# Altium footprint library PcbLib1.PcbLib: 2 footprints
Each footprint in its own frame and in the unit in brackets; x right, y up, seen from the top. Pads: shape width x height; smd on the part's side, far side on the other; paste and mask are expansions set on the pad; w line width, h text height; cw(c..) or ccw(c..) is an arc to the next point about the centre after c.
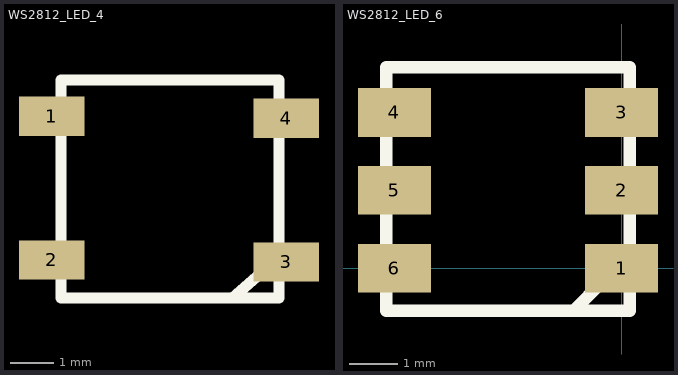
[diagram p0: the footprints below, top view; thin cyan lines are the x and y axes]

## WS2812_LED_4 [mm]
pads (4):
  rect 1.5x0.9 smd: 1(-42.126,-71.52) 2(-42.126,-74.82) 3(-36.741,-74.866) 4(-36.741,-71.566)
Top Overlay:
  lines w0.254: -37.973,-75.692 -36.957,-74.803 ; -41.91,-75.692 -36.91,-75.692 -36.91,-70.692 -41.91,-70.692 -41.91,-75.692

## WS2812_LED_6 [mm]
pads (6):
  rect 1.5x1 smd: 1(0,0) 2(0,1.6) 3(0,3.2) 4(-4.668,3.2) 5(-4.668,1.6) 6(-4.668,0)
Top Overlay:
  lines w0.254: -0.955,-0.851 0.127,0.254 ; -4.834,-0.874 0.166,-0.874 0.166,4.126 -4.834,4.126 -4.834,-0.874